# Altium schematic symbol library TPS560200DBVT.Schlib: 1 symbol
Pins are listed as number, name and electrical type; pins without a type are passive.

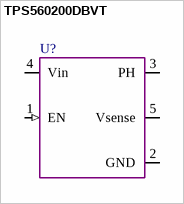
[diagram p0: symbol TPS560200DBVT]

## TPS560200DBVT
designator U?  (value not drawn)
pins: 1 EN (in), 2 GND (power), 3 PH, 4 Vin (power), 5 Vsense